# Altium schematic symbol library CK45-B3FD471KYGNA.SchLib: 1 symbol
Pins are listed as number, name and electrical type; pins without a type are passive.

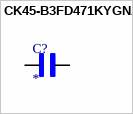
[diagram p0: symbol CK45-B3FD471KYGNA]

## CK45-B3FD471KYGNA
designator C?
MF: {'manufacturer': u'TDK'}; MP: CK45-B3FD471KYGNA; Package: None; Price: None; Value: *; Availability: Unavailable
footprint CAPRB750W60L700T600H1100
pins: 1, 2